# EAGLE library part 74LVC1G74DP,125 (library 74LVC1G74DP_125)
74LVC1G74 - Single D-type flip-flop with set and reset; positive edge trigger@en-us Source: Datasheet <https://assets.nexperia.com/documents/data-sheet/74LVC1G74.pdf>
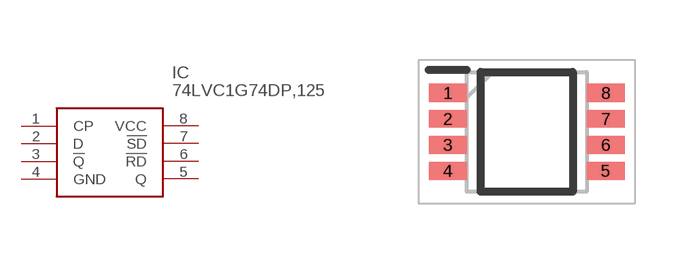
[diagram p0: symbol with the pads of SOP65P400X110-8N; footprint SOP65P400X110-8N]

Designator prefix IC

## 74LVC1G74DP,125 (Arrow_Part_Number: 74LVC1G74DP,125; Arrow_Price-Stock: https://www.arrow.com/en/products/74lvc1g74dp125/nexperia?region=europe; Description: 74LVC1G74 - Single D-type flip-flop with set and reset; positive edge trigger@en-us; Height: 1.1mm; Manufacturer_Name: Nexperia; Manufacturer_Part_Number: 74LVC1G74DP,125; Mouser_Part_Number: 771-LVC1GDP125; Mouser_Price-Stock: https://www.mouser.co.uk/ProductDetail/Nexperia/74LVC1G74DP125?qs=me8TqzrmIYWtKZiCsFqsMg%3D%3D)  [SOP65P400X110-8N]
1  CP
2  D
3  !Q
4  GND
5  Q
6  !RD
7  !SD
8  VCC

## Footprint SOP65P400X110-8N (pad centres in mm)
SOT505-2
smd 0.95 x 0.45: 1 -1.975,0.975; 2 -1.975,0.325; 3 -1.975,-0.325; 4 -1.975,-0.975; 5 1.975,-0.975; 6 1.975,-0.325; 7 1.975,0.325; 8 1.975,0.975